# Altium footprint library 18f4550.PcbLib: 8 footprints
Each footprint in its own frame and in the unit in brackets; x right, y up, seen from the top. Pads: shape width x height; smd on the part's side, far side on the other; paste and mask are expansions set on the pad; w line width, h text height; cw(c..) or ccw(c..) is an arc to the next point about the centre after c.
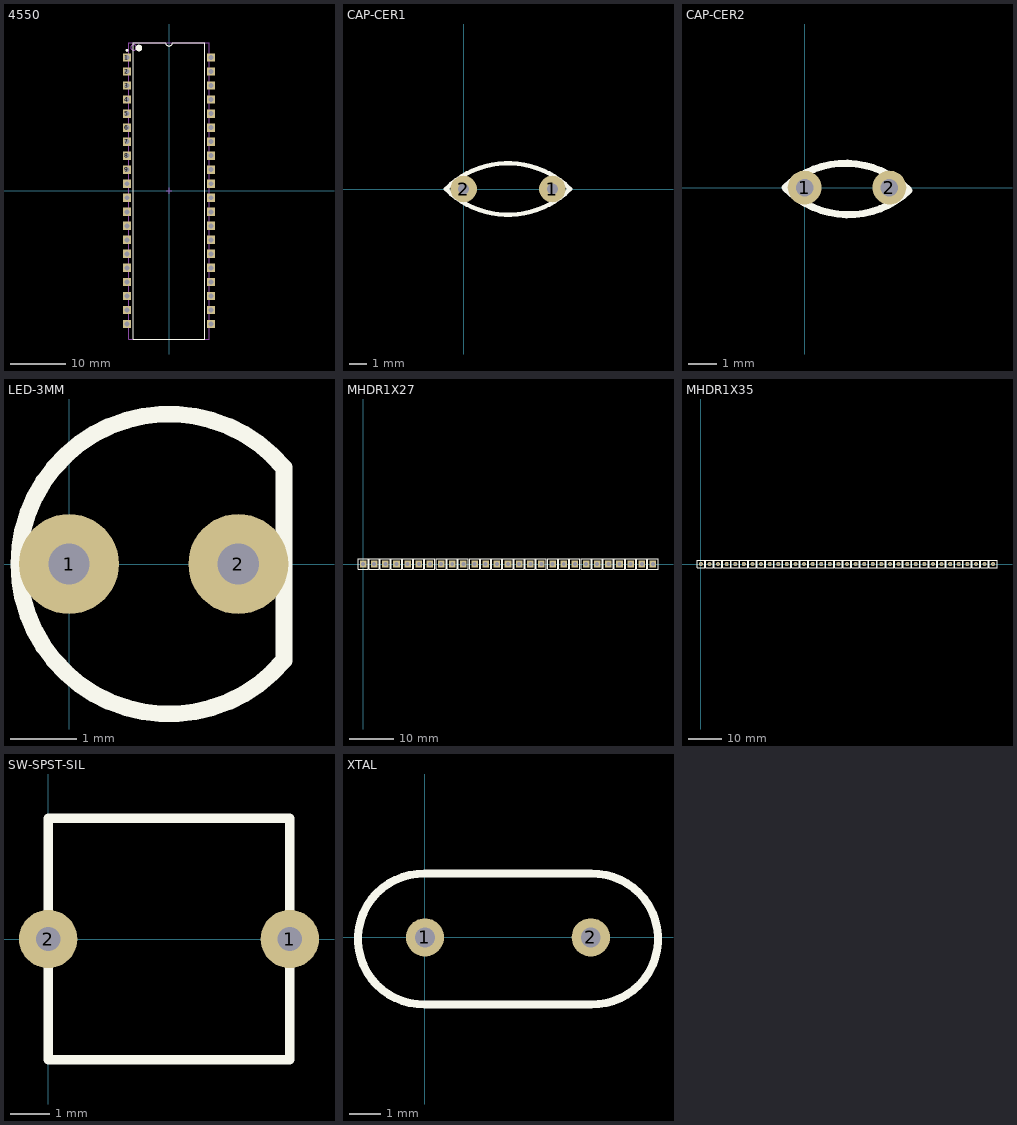
[diagram p0: the footprints below, top view; thin cyan lines are the x and y axes]

## 4550 [mm] "DIP, 40-Leads, Row Spacing 15.24mm, Pitch 2.54mm, Body 51.8x13.5mm"
height 6.35
pads (40):
  rect 1.5x1.5 hole 0.9: 1(-7.62,24.13) 2(-7.62,21.59) 3(-7.62,19.05) 4(-7.62,16.51) 5(-7.62,13.97) 6(-7.62,11.43) 7(-7.62,8.89) 8(-7.62,6.35) 9(-7.62,3.81) 10(-7.62,1.27) 11(-7.62,-1.27) 12(-7.62,-3.81) 13(-7.62,-6.35) 14(-7.62,-8.89) 15(-7.62,-11.43) 16(-7.62,-13.97) 17(-7.62,-16.51) 18(-7.62,-19.05) 19(-7.62,-21.59) 20(-7.62,-24.13) 21(7.62,-24.13) 22(7.62,-21.59) 23(7.62,-19.05) 24(7.62,-16.51) 25(7.62,-13.97) 26(7.62,-11.43) 27(7.62,-8.89) 28(7.62,-6.35) 29(7.62,-3.81) 30(7.62,-1.27) 31(7.62,1.27) 32(7.62,3.81) 33(7.62,6.35) 34(7.62,8.89) 35(7.62,11.43) 36(7.62,13.97) 37(7.62,16.51) 38(7.62,19.05) 39(7.62,21.59) 40(7.62,24.13)
Top Overlay:
  circle w0.6: c-5.45,25.85 r0.3
  circle w0.25: c-7.62,25.43 r0.125
  lines w0.2: -6.45,-26.85 6.45,-26.85 6.45,26.85 0.635,26.85 cw(c0,26.85) -0.635,26.85 -6.45,26.85 -6.45,-26.85
Mechanical 13:
  circle w0.1: c-6.4,25.95 r0.5
  lines w0.1: -7.3,-26.85 7.3,-26.85 7.3,26.85 -7.3,26.85 -7.3,-26.85
Mechanical 15:
  lines w0.1: -0.5,0 0.5,0 ; 0,-0.5 0,0.5
3D body: height 6.35, standoff 0, extent -7.3,-26.85 7.3,26.85

## CAP-CER1 [mm]
pads (2):
  round 1.5 hole 0.62: 1(5,0) 2(0,0)
Top Overlay:
  lines w0.254: -1,0 cw(c2.5,-3.5) 6,0 cw(c2.5,3.5) -1,0

## CAP-CER2 [mm]
pads (2):
  round 1.2 hole 0.62: 1(0,0) 2(3,0)
Top Overlay:
  lines w0.254: -0.7,0 cw(c1.45,-2.25) 3.7,-0.1 cw(c1.55,2.15) -0.7,0

## LED-3MM [mm]
pads (2):
  round 1.5 hole 0.62: 1(0,0) 2(2.54,0)
Top Overlay:
  lines w0.254: 3.224,-1.446 cw(c1.5,0) 3.224,1.446 3.224,-1.446

## MHDR1X27 [mm]
pads (27):
  rect 1.5x1.5 hole 0.9: 1(0,0) 2(2.54,0) 3(5.08,0) 4(7.62,0) 5(10.16,0) 6(12.7,0) 7(15.24,0) 8(17.78,0) 9(20.32,0) 10(22.86,0) 11(25.4,0) 12(27.94,0) 13(30.48,0) 14(33.02,0) 15(35.56,0) 16(38.1,0) 17(40.64,0) 18(43.18,0) 19(45.72,0) 20(48.26,0) 21(50.8,0) 22(53.34,0) 23(55.88,0) 24(58.42,0) 25(60.96,0) 26(63.5,0) 27(66.04,0)
Top Overlay:
  lines w0.254: -1.15,-1.15 -1.15,1.15 1.15,1.15 1.15,-1.15 -1.15,-1.15 ; 1.39,-1.15 1.39,1.15 3.69,1.15 3.69,-1.15 1.39,-1.15 ; 3.93,-1.15 3.93,1.15 6.23,1.15 6.23,-1.15 3.93,-1.15 ; 6.47,-1.15 6.47,1.15 8.77,1.15 8.77,-1.15 6.47,-1.15 ; 9.01,-1.15 9.01,1.15 11.31,1.15 11.31,-1.15 9.01,-1.15 ; 11.55,-1.15 11.55,1.15 13.85,1.15 13.85,-1.15 11.55,-1.15 ; 14.09,-1.15 14.09,1.15 16.39,1.15 16.39,-1.15 14.09,-1.15 ; 16.63,-1.15 16.63,1.15 18.93,1.15 18.93,-1.15 16.63,-1.15 ; 19.17,-1.15 19.17,1.15 21.47,1.15 21.47,-1.15 19.17,-1.15 ; 21.71,-1.15 21.71,1.15 24.01,1.15 24.01,-1.15 21.71,-1.15 ; 24.25,-1.15 24.25,1.15 26.55,1.15 26.55,-1.15 24.25,-1.15 ; 26.79,-1.15 26.79,1.15 29.09,1.15 29.09,-1.15 26.79,-1.15 ; 29.33,-1.15 29.33,1.15 31.63,1.15 31.63,-1.15 29.33,-1.15 ; 31.87,-1.15 31.87,1.15 34.17,1.15 34.17,-1.15 31.87,-1.15 ; 34.41,-1.15 34.41,1.15 36.71,1.15 36.71,-1.15 34.41,-1.15 ; 36.95,-1.15 36.95,1.15 39.25,1.15 39.25,-1.15 36.95,-1.15 ; 39.49,-1.15 39.49,1.15 41.79,1.15 41.79,-1.15 39.49,-1.15 ; 42.03,-1.15 42.03,1.15 44.33,1.15 44.33,-1.15 42.03,-1.15 ; 44.57,-1.15 44.57,1.15 46.87,1.15 46.87,-1.15 44.57,-1.15 ; 47.11,-1.15 47.11,1.15 49.41,1.15 49.41,-1.15 47.11,-1.15 ; 49.65,-1.15 49.65,1.15 51.95,1.15 51.95,-1.15 49.65,-1.15 ; 52.19,-1.15 52.19,1.15 54.49,1.15 54.49,-1.15 52.19,-1.15 ; 54.73,-1.15 54.73,1.15 57.03,1.15 57.03,-1.15 54.73,-1.15 ; 57.27,-1.15 57.27,1.15 59.57,1.15 59.57,-1.15 57.27,-1.15 ; 59.81,-1.15 59.81,1.15 62.11,1.15 62.11,-1.15 59.81,-1.15 ; 62.35,-1.15 62.35,1.15 64.65,1.15 64.65,-1.15 62.35,-1.15 ; 64.89,-1.15 64.89,1.15 67.19,1.15 67.19,-1.15 64.89,-1.15

## MHDR1X35 [mm] "Header, 35-Pin"
pads (35):
  round 1.2 hole 0.635: 1(0,0) 2(2.54,0) 3(5.08,0) 4(7.62,0) 5(10.16,0) 6(12.7,0) 7(15.24,0) 8(17.78,0) 9(20.32,0) 10(22.86,0) 11(25.4,0) 12(27.94,0) 13(30.48,0) 14(33.02,0) 15(35.56,0) 16(38.1,0) 17(40.64,0) 18(43.18,0) 19(45.72,0) 20(48.26,0) 21(50.8,0) 22(53.34,0) 23(55.88,0) 24(58.42,0) 25(60.96,0) 26(63.5,0) 27(66.04,0) 28(68.58,0) 29(71.12,0) 30(73.66,0) 31(76.2,0) 32(78.74,0) 33(81.28,0) 34(83.82,0) 35(86.36,0)
Top Overlay:
  lines w0.254: -1.15,-1.15 1.15,-1.15 1.15,1.15 -1.15,1.15 -1.15,-1.15 ; 1.39,-1.15 3.69,-1.15 3.69,1.15 1.39,1.15 1.39,-1.15 ; 3.93,-1.15 6.23,-1.15 6.23,1.15 3.93,1.15 3.93,-1.15 ; 6.47,-1.15 8.77,-1.15 8.77,1.15 6.47,1.15 6.47,-1.15 ; 9.01,-1.15 11.31,-1.15 11.31,1.15 9.01,1.15 9.01,-1.15 ; 11.55,-1.15 13.85,-1.15 13.85,1.15 11.55,1.15 11.55,-1.15 ; 14.09,-1.15 16.39,-1.15 16.39,1.15 14.09,1.15 14.09,-1.15 ; 16.63,-1.15 18.93,-1.15 18.93,1.15 16.63,1.15 16.63,-1.15 ; 19.17,-1.15 21.47,-1.15 21.47,1.15 19.17,1.15 19.17,-1.15 ; 21.71,-1.15 24.01,-1.15 24.01,1.15 21.71,1.15 21.71,-1.15 ; 24.25,-1.15 26.55,-1.15 26.55,1.15 24.25,1.15 24.25,-1.15 ; 26.79,-1.15 29.09,-1.15 29.09,1.15 26.79,1.15 26.79,-1.15 ; 29.33,-1.15 31.63,-1.15 31.63,1.15 29.33,1.15 29.33,-1.15 ; 31.87,-1.15 34.17,-1.15 34.17,1.15 31.87,1.15 31.87,-1.15 ; 34.41,-1.15 36.71,-1.15 36.71,1.15 34.41,1.15 34.41,-1.15 ; 36.95,-1.15 39.25,-1.15 39.25,1.15 36.95,1.15 36.95,-1.15 ; 39.49,-1.15 41.79,-1.15 41.79,1.15 39.49,1.15 39.49,-1.15 ; 42.03,-1.15 44.33,-1.15 44.33,1.15 42.03,1.15 42.03,-1.15 ; 44.57,-1.15 46.87,-1.15 46.87,1.15 44.57,1.15 44.57,-1.15 ; 47.11,-1.15 49.41,-1.15 49.41,1.15 47.11,1.15 47.11,-1.15 ; 49.65,-1.15 51.95,-1.15 51.95,1.15 49.65,1.15 49.65,-1.15 ; 52.19,-1.15 54.49,-1.15 54.49,1.15 52.19,1.15 52.19,-1.15 ; 54.73,-1.15 57.03,-1.15 57.03,1.15 54.73,1.15 54.73,-1.15 ; 57.27,-1.15 59.57,-1.15 59.57,1.15 57.27,1.15 57.27,-1.15 ; 59.81,-1.15 62.11,-1.15 62.11,1.15 59.81,1.15 59.81,-1.15 ; 62.35,-1.15 64.65,-1.15 64.65,1.15 62.35,1.15 62.35,-1.15 ; 64.89,-1.15 67.19,-1.15 67.19,1.15 64.89,1.15 64.89,-1.15 ; 67.43,-1.15 69.73,-1.15 69.73,1.15 67.43,1.15 67.43,-1.15 ; 69.97,-1.15 72.27,-1.15 72.27,1.15 69.97,1.15 69.97,-1.15 ; 72.51,-1.15 74.81,-1.15 74.81,1.15 72.51,1.15 72.51,-1.15 ; 75.05,-1.15 77.35,-1.15 77.35,1.15 75.05,1.15 75.05,-1.15 ; 77.59,-1.15 79.89,-1.15 79.89,1.15 77.59,1.15 77.59,-1.15 ; 80.13,-1.15 82.43,-1.15 82.43,1.15 80.13,1.15 80.13,-1.15 ; 82.67,-1.15 84.97,-1.15 84.97,1.15 82.67,1.15 82.67,-1.15 ; 85.21,-1.15 87.51,-1.15 87.51,1.15 85.21,1.15 85.21,-1.15

## SW-SPST-SIL [mm]
pads (2):
  round 1.5 hole 0.62: 1(6.2,0) 2(0,0)
Top Overlay:
  lines w0.254: 0,-3.1 0,3.1 6.2,3.1 6.2,-3.1 0,-3.1

## XTAL [mm]
pads (2):
  round 1.2 hole 0.62: 1(0,0) 2(5.2,0)
Top Overlay:
  lines w0.254: 0,-2.1 cw(c-0.05,-0.05) 0,2 5.2,2 cw(c5.255,-0.05) 5.2,-2.1 0,-2.1